# EAGLE library part TPD4E001RDBVR (library TPD4E001RDBVR)
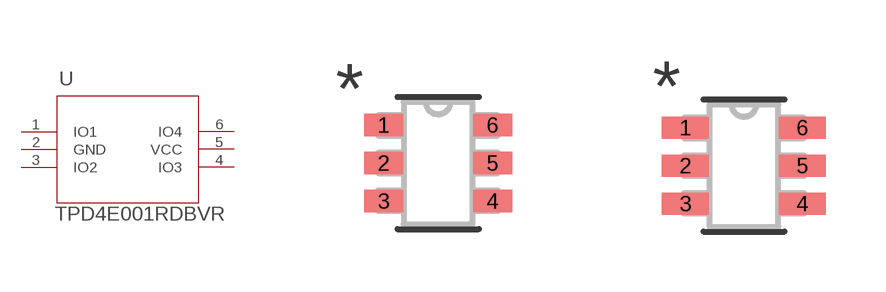
[diagram p0: symbol with the pads of DBV6; footprints DBV6, DBV6-M]

Designator prefix U

## TPD4E001RDBVR (COPYRIGHT: Copyright (C) 2021 Ultra Librarian. All rights reserved.; MANUFACTURER_PART_NUMBER: TPD4E001RDBVR; MFR_NAME: Texas Instruments)  [DBV6]
1  IO1
2  GND  pwr
3  IO2
4  IO3
5  VCC  pwr
6  IO4

## TPD4E001RDBVRDBV6-M (COPYRIGHT: Copyright (C) 2021 Ultra Librarian. All rights reserved.; MANUFACTURER_PART_NUMBER: TPD4E001RDBVR; MFR_NAME: Texas Instruments)  [DBV6-M]
Pads as for DBV6

## TPD4E001RDBVRDBV6-L (COPYRIGHT: Copyright (C) 2021 Ultra Librarian. All rights reserved.; MANUFACTURER_PART_NUMBER: TPD4E001RDBVR; MFR_NAME: Texas Instruments)  [DBV6-L]
Pads as for DBV6

## Footprint DBV6 (pad centres in mm)
smd 0.972 x 0.558: 1 -1.362,0.95; 2 -1.362,0; 3 -1.362,-0.95; 4 1.362,-0.95; 5 1.362,0; 6 1.362,0.95

## Footprint DBV6-M (pad centres in mm)
smd 1.172 x 0.558: 1 -1.462,0.95; 2 -1.462,0; 3 -1.462,-0.95; 4 1.462,-0.95; 5 1.462,0; 6 1.462,0.95

## Footprint DBV6-L (pad centres in mm)
smd 0.772 x 0.508: 1 -1.262,0.95; 2 -1.262,0; 3 -1.262,-0.95; 4 1.262,-0.95; 5 1.262,0; 6 1.262,0.95